# Altium footprint library USR-TCP232E.PcbLib: 1 footprints
Each footprint in its own frame and in the unit in brackets; x right, y up, seen from the top. Pads: shape width x height; smd on the part's side, far side on the other; paste and mask are expansions set on the pad; w line width, h text height; cw(c..) or ccw(c..) is an arc to the next point about the centre after c.
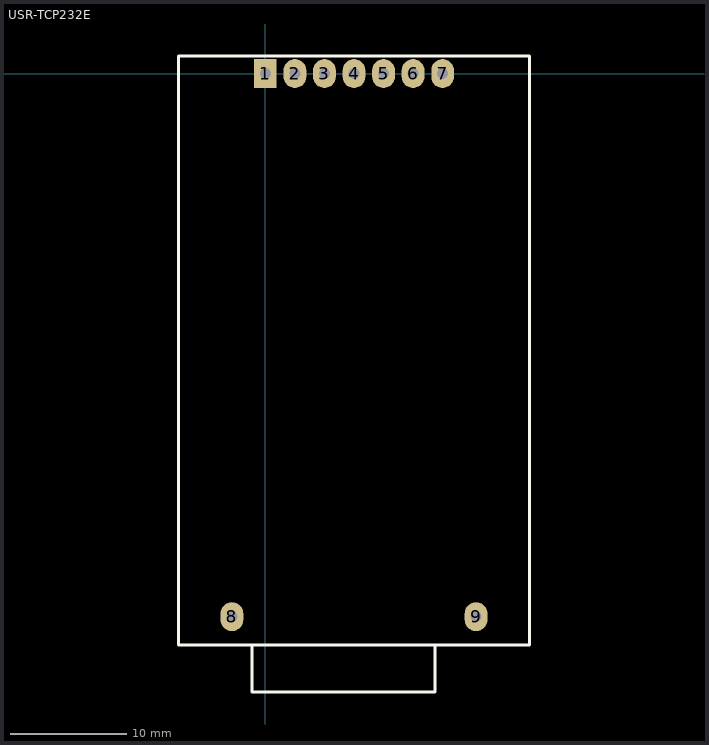
[diagram p0: the footprint, top view; thin cyan lines are the x and y axes]

## USR-TCP232E [mm]
pads (9):
  rect 1.95x2.5 hole 0.95: 1(0,0)
  oval 1.95x2.5 hole 0.95: 2(2.54,0) 3(5.08,0) 4(7.62,0) 5(10.16,0) 6(12.7,0) 7(15.24,0) 8(-2.88,-46.72) 9(18.12,-46.72)
Top Overlay:
  lines w0.254: -6.096,-49.149 22.733,-49.149 22.733,-43.942 22.733,1.524 12.541,1.524 5.501,1.524 -7.493,1.524 -7.493,-49.149 -5.969,-49.149 ; -1.143,-49.149 -1.143,-53.213 14.605,-53.213 14.605,-51.244 14.605,-49.847 14.605,-49.149